# EAGLE library part PW-NCP12* (library Namenlos)
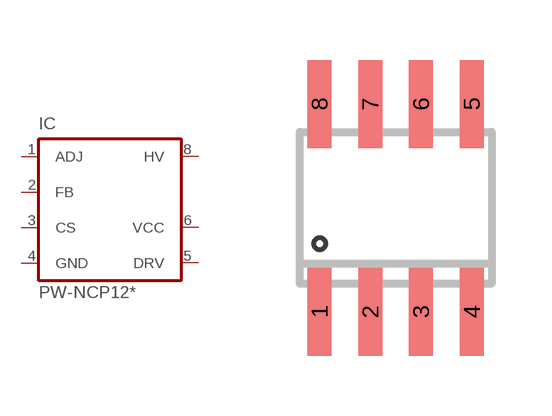
[diagram p21: symbol with the pads of SO8; footprint SO8]

Designator prefix IC

## PW-NCP12NCP1200D  [SO8]
1  ADJ  pas
2  FB  in
3  CS  in
4  GND  pas
5  DRV  pwr
6  VCC  out
8  HV  pas

## Footprint SO8 (pad centres in mm)
smd 0.6 x 2.2: 1 -1.905,-2.6; 2 -0.635,-2.6; 3 0.635,-2.6; 4 1.905,-2.6; 5 1.905,2.6; 6 0.635,2.6; 7 -0.635,2.6; 8 -1.905,2.6